# Altium schematic symbol library LFSPXO019987.SchLib: 1 symbol
Pins are listed as number, name and electrical type; pins without a type are passive.

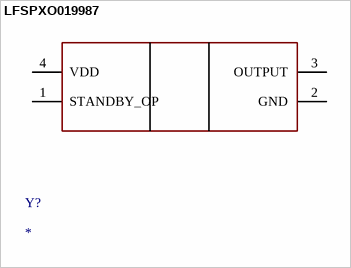
[diagram p0: symbol LFSPXO019987]

## LFSPXO019987
designator Y?
Crystal or Oscillator; Manufacturer_Name: IQD; Manufacturer_Part_Number: LFSPXO019987; Datasheet Link: https://www.iqdfrequencyproducts.com/products/datasheets/LFSPXO019987.pdf; Height: 1.4mm
footprint LFSPXO019987
pins: 1 STANDBY_OP, 2 GND, 3 OUTPUT, 4 VDD